# Altium schematic symbol library Miscellaneous.SchLib: 3 symbols
Pins are listed as number, name and electrical type; pins without a type are passive.

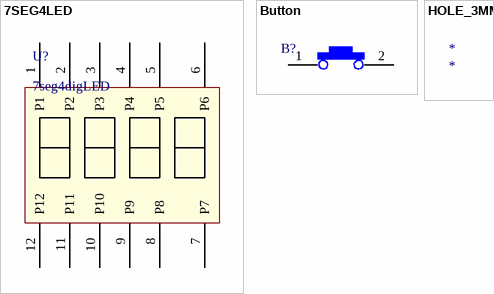
[diagram p0: symbols 7SEG4LED to HOLE_3MM]

## 7SEG4LED
designator U?, comment 7seg4digLED
7 segment 4-digit LED; Name: 7seg4digLED
footprint LD3361BS (segment four digit LED display 9.14mm)
pins: 1 P1, 2 P2, 3 P3, 4 P4, 5 P5, 6 P6, 7 P7, 8 P8, 9 P9, 10 P10, 11 P11, 12 P12

## Button
designator B?
Button
pins: 1, 2

## HOLE_3MM
designator *  (mechanical)
footprint HOLE_3MM